# EAGLE library part CONNECTOR-37_?_* (library HyTechDevices)
37 pin connector Datasheet <https://www.mouser.com/datasheet/2/379/P088_P096-179693.pdf>
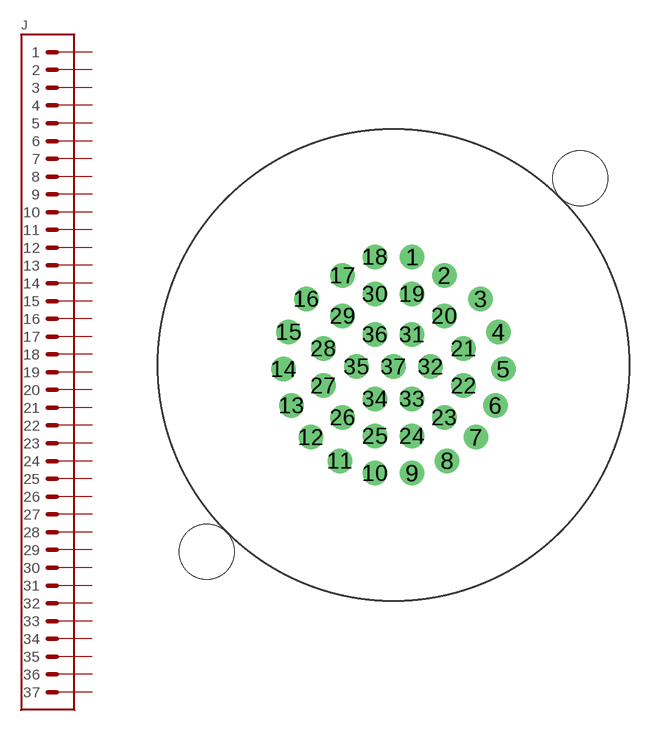
[diagram p50: symbol with the pads of SOURIAU_14-35; footprint SOURIAU_14-35]

Designator prefix J

## CONNECTOR-37__ (MANUFACTURER: Souriau; MOPN: 649-8STA21435PN; MPN: 8STA21435PN)  [SOURIAU_14-35]
1  1  pas
2  2  pas
3  3  pas
4  4  pas
5  5  pas
6  6  pas
7  7  pas
8  8  pas
9  9  pas
10  10  pas
11  11  pas
12  12  pas
13  13  pas
14  14  pas
15  15  pas
16  16  pas
17  17  pas
18  18  pas
19  19  pas
20  20  pas
21  21  pas
22  22  pas
23  23  pas
24  24  pas
25  25  pas
26  26  pas
27  27  pas
28  28  pas
29  29  pas
30  30  pas
31  31  pas
32  32  pas
33  33  pas
34  34  pas
35  35  pas
36  36  pas
37  37  pas

## Footprint SOURIAU_14-35 (pad centres in mm)
SOURIAU 37 PIN Footprint <https://www.te.com/commerce/DocumentDelivery/DDEController?Action=srchrtrv&DocNm=1-1773721-9_as_technical&DocType=DS&DocLang=EN>
drill 1: 1 1.143,6.655; 2 3.124,5.512; 3 5.359,4.064; 4 6.452,2.032; 5 6.756,-0.254; 6 6.274,-2.489; 7 5.08,-4.445; 8 3.302,-5.893; 9 1.143,-6.655; 10 -1.143,-6.655; 11 -3.302,-5.893; 12 -5.08,-4.445; 13 -6.274,-2.489; 14 -6.756,-0.254; 15 -6.452,2.032; 16 -5.359,4.064; 17 -3.124,5.512; 18 -1.143,6.655; 19 1.143,4.369; 20 3.124,3.023; 21 4.318,1.016; 22 4.318,-1.27; 23 3.124,-3.226; 24 1.143,-4.369; 25 -1.143,-4.369; 26 -3.124,-3.226; 27 -4.318,-1.27; 28 -4.318,1.016; 29 -3.124,3.023; 30 -1.143,4.369; 31 1.143,1.88; 32 2.286,-0.102; 33 1.143,-2.083; 34 -1.143,-2.083; 35 -2.286,-0.102; 36 -1.143,1.88; 37 0,-0.102
hole 3.4 at -11.491,-11.491
hole 3.4 at 11.491,11.491